# Altium footprint library TLP7820(TP4,E.PcbLib: 1 footprints
Each footprint in its own frame and in the unit in brackets; x right, y up, seen from the top. Pads: shape width x height; smd on the part's side, far side on the other; paste and mask are expansions set on the pad; w line width, h text height; cw(c..) or ccw(c..) is an arc to the next point about the centre after c.
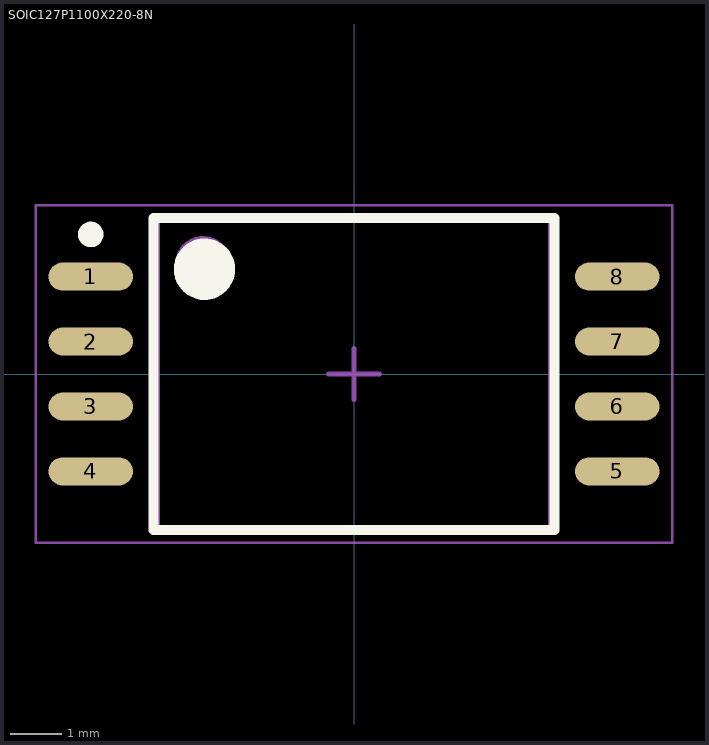
[diagram p0: the footprint, top view; thin cyan lines are the x and y axes]

## SOIC127P1100X220-8N [mm] "SOIC, 8-Leads, Body 5.85x7.50mm, Pitch 1.27mm, IPC Medium Density"
height 2.2
pads (8):
  oval 1.65x0.55 smd: 1(-5.15,1.905) 2(-5.15,0.635) 3(-5.15,-0.635) 4(-5.15,-1.905) 5(5.15,-1.905) 6(5.15,-0.635) 7(5.15,0.635) 8(5.15,1.905)
Top Overlay:
  circle w0.6: c-2.925,2.05 r0.3
  circle w0.25: c-5.15,2.73 r0.125
  lines w0.2: -3.925,-3.05 3.925,-3.05 3.925,3.05 -3.925,3.05 -3.925,-3.05
Mechanical 13:
  circle w0.1: c-2.95,2.15 r0.5
  lines w0.1: -3.85,-3.05 3.85,-3.05 3.85,3.05 -3.85,3.05 -3.85,-3.05
Mechanical 15:
  lines w0.05: -6.225,-3.3 6.225,-3.3 6.225,3.3 -6.225,3.3 -6.225,-3.3
  lines w0.1: -0.5,0 0.5,0 ; 0,-0.5 0,0.5
3D body: height 2.2, standoff 0.1, extent -3.85,-3.05 3.85,3.05